# Altium schematic symbol library n21-p2.SchLib: 84 symbols (part 1 of 2)
Pins are listed as number, name and electrical type; pins without a type are passive.

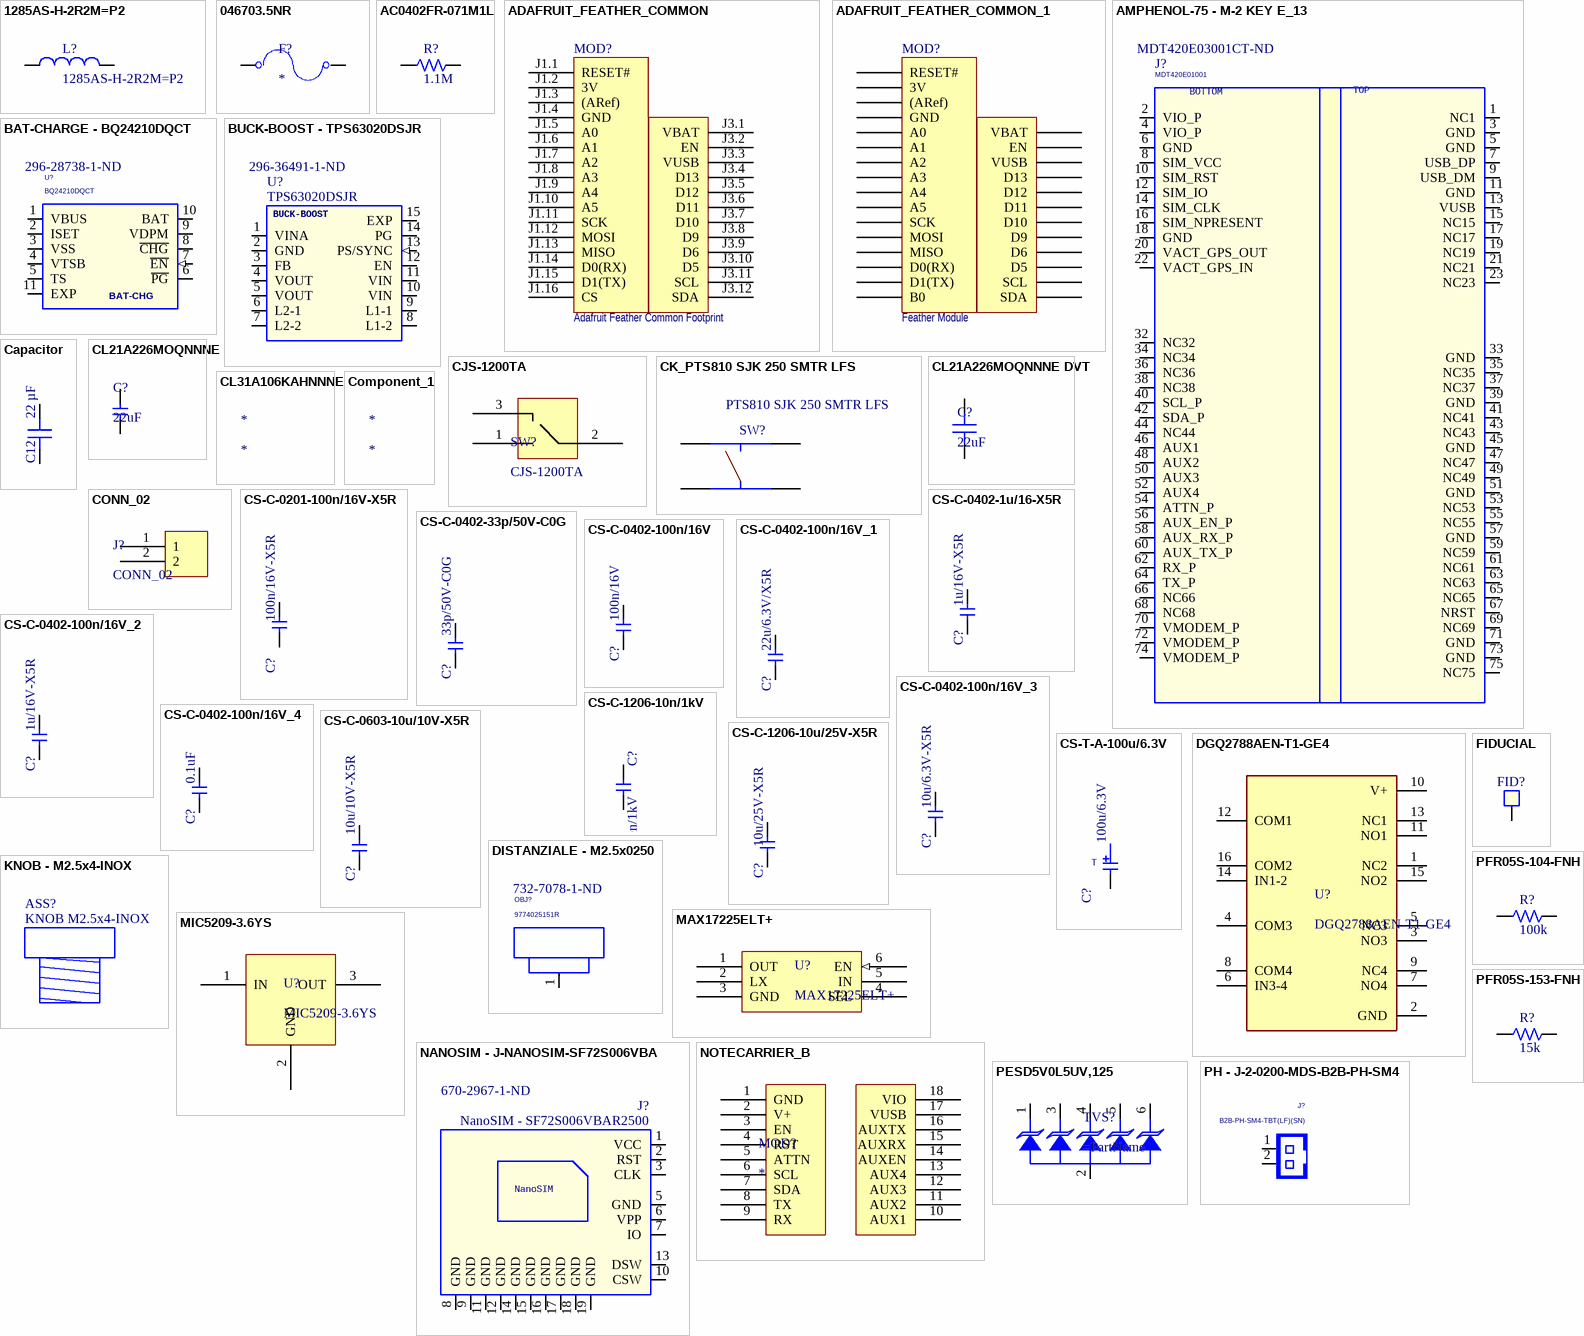
[diagram p0: symbols 1285AS-H-2R2M=P2 to PH - J-2-0200-MDS-B2B-PH-SM4]

## 1285AS-H-2R2M=P2
designator L?
Inductor Power Shielded Wirewound 2.2uH 20% 1MHz Metal 1.2A 0.204Ohm DCR 0806 T/R; Manufacturer: Murata; Core Material: Ferrite; DC Resistance (DCR): 204mR; Current Rating: 1.5A; Supplier 1: Digi-Key; Manufacturer Part Number: 1285AS-H-2R2M=P2; RoHS: Yes; Category: Fixed Inductors; Stock 1: 2212; Pricing 1: 1=0.40000, 10=0.35300, 25=0.30920, 50=0.26500, 100=0.24280, 250=0.22076, 500=0.20752, 1000=0.15895 (USD); Mount: Surface Mount; Case/Package: 0805; Case Code (Metric): 2012; Case Code (Imperial): 0805; Min Operating Temperature: -40°C; Max Operating Temperature: 85°C; Inductance: 2.2uH; Shielding: Shielded; Max DC Current: 1.2A; Tolerance: 20%; Packaging: Tape and Reel; Resistor Type: Wirewound,Metal Alloy; Test Frequency: 1MHz; Length: 0.079inch; Width: 0.063inch; Depth: 1.6mm; Height - Seated (Max): 0.039inch; RoHS Compliant: Yes; ComponentLink1URL: http://www.toko.co.jp/products/pdf/inductors/dfe201610c.pdf?src-supplier=Avnet; ComponentLink1Description: http://www.toko.co.jp/products/pdf/inductors/dfe201610c.pdf?src-supplier=Avnet; ComponentLink2URL: https://www.murata.com/~/media/webrenewal/products/inductor/chip/tokoproducts/wirewoundmetalalloychiptype/m_dfe201610c.ashx?src-supplier=Digi-Key; ComponentLink2Description: https://www.murata.com/~/media/webrenewal/products/inductor/chip/tokoproducts/wirewoundmetalalloychiptype/m_dfe201610c.ashx?src-supplier=Digi-Key; Supplier Part Number 1: 490-10600-1-ND
footprint 1285AS-H-2R2M=P2-INDC2016X100N
pins: 1, 2

## 046703.5NR
designator F?
Fuse Chip Very Fast Acting 3.5A 32V SMD Solder Pad 0603 T/R CSA; Manufacturer 1: Littelfuse; Manufacturer Part Number 1: 046703.5NR; Body Material: Thermoplastic; DC Cold Resistance: 13.9mR; Fuse Type: Board Mount (Cartridge Style Excluded); Resistance: 15mR; Power Dissipation: 259.9mW; Approvals: UL,CSA; Supplier 1: Digi-Key; RoHS: Yes; Category: Fuses; Stock 1: 384; Pricing 1: 1=1.35000, 5=1.31000, 10=1.22600, 50=1.01440, 100=0.84540, 250=0.82428, 500=0.69746, 1000=0.61292 (USD); Mount: Surface Mount; Case/Package: 0603; Case Code (Metric): 1608; Case Code (Imperial): 0603; Min Operating Temperature: -55°C; Max Operating Temperature: 90°C; Voltage Rating (AC): 32V; Voltage Rating (DC): 32V; Current Rating: 3.5A; Packaging: Tape and Reel; Package Quantity: 5000; Series: 467; Voltage Rating: 32V; Termination: SMD/SMT; Fuse Current: 3.5A; Working Voltage: 32V; Length: 1.6mm; Width: 1.09mm; Height: 0.012inch; Depth: 0.81mm; RoHS Compliant: Yes; REACH SVHC: Unknown; Lead Free: Lead Free; ComponentLink1URL: https://datasheet.ciiva.com/299/467-299333.pdf?src-supplier=Digi-Key; ComponentLink1Description: https://datasheet.ciiva.com/299/467-299333.pdf?src-supplier=Digi-Key; ComponentLink2URL: https://datasheet.ciiva.com/299/467-299334.pdf?src-supplier=Digi-Key; ComponentLink2Description: https://datasheet.ciiva.com/299/467-299334.pdf?src-supplier=Digi-Key; ComponentLink3URL: https://datasheet.ciiva.com/299/467-299335.pdf?src-supplier=Digi-Key; ComponentLink3Description: https://datasheet.ciiva.com/299/467-299335.pdf?src-supplier=Digi-Key; ComponentLink4URL: https://datasheet.ciiva.com/1549/48494-1549730.pdf?src-supplier=Element14; ComponentLink4Description: https://datasheet.ciiva.com/1549/48494-1549730.pdf?src-supplier=Element14; ComponentLink5URL: https://datasheet.ciiva.com/16327/467-16327451.pdf?src-supplier=Future+Electronics; ComponentLink5Description: https://datasheet.ciiva.com/16327/467-16327451.pdf?src-supplier=Future+Electronics; Supplier Part Number 1: F1400CT-ND
footprint FS-0603
pins: 1, 2

## AC0402FR-071M1L
designator R?, comment 1.1M
Res Thick Film 0402 1.1M Ohm 1% 0.063W(1/16W) ±100ppm/C Pad SMD Automotive T/R; Manufacturer: Yageo; Manufacturer Part Number: AC0402FR-071M1L; Power Rating: 62.5mW; Resistance: 1.1MR; Voltage Rating: 50V; Temperature Coefficient: 100ppm/°C; Max Power Dissipation: 63mW; Supplier 1: Digi-Key; RoHS: Yes; Category: Chip SMD Resistors; Stock 1: 15284; Pricing 1: 1=0.10000, 10=0.02200, 100=0.00900, 1000=0.00402, 2500=0.00349, 5000=0.00288 (USD); Case/Package: 0402; Case Code (Imperial): 0402; Case Code (Metric): 1005; Min Operating Temperature: -55°C; Max Operating Temperature: 155°C; Packaging: Tape and Reel; Tolerance: 1%; Resistor Type: Thick Film; Termination: SMD/SMT; Number of Terminations: 2; Features: Moisture Resistant,Automotive AEC-Q200; Series: AC; Length: 0.039inch; Width: 0.5mm; Height: 0.015inch; RoHS Compliant: Yes; ComponentLink1URL: http://www.mouser.com/ds/2/447/yageodocoutput-1111992.pdf?src-supplier=Mouser; ComponentLink1Description: http://www.mouser.com/ds/2/447/yageodocoutput-1111992.pdf?src-supplier=Mouser; ComponentLink2URL: http://www.yageo.com/NewPortal/yageodocoutput?fileName=/pdf/R-Chip/PYu-AC_51_RoHS_L_6.pdf&src-supplier=Digi-Key; ComponentLink2Description: http://www.yageo.com/NewPortal/yageodocoutput?fileName=/pdf/R-Chip/PYu-AC_51_RoHS_L_6.pdf&src-supplier=Digi-Key; Supplier Part Number 1: YAG5647CT-ND
footprint RES 0402_1005 (Chip Resistor, 2-Leads, Body 1.0x0.5mm, IPC Medium Density)
pins: 1, 2

## ADAFRUIT_FEATHER_COMMON
designator MOD?, comment Adafruit Feather Common Footprint
Typical Adafruit Feather Pinout
pins: J1.1 RESET#, J1.2 3V, J1.3 (ARef), J1.4 GND, J1.5 A0, J1.6 A1, J1.7 A2, J1.8 A3, J1.9 A4, J1.10 A5, J1.11 SCK, J1.12 MOSI, J1.13 MISO, J1.14 D0(RX), J1.15 D1(TX), J1.16 CS, J3.1 VBAT, J3.2 EN, J3.3 VUSB, J3.4 D13, J3.5 D12, J3.6 D11, J3.7 D10, J3.8 D9, J3.9 D6, J3.10 D5, J3.11 SCL, J3.12 SDA

## ADAFRUIT_FEATHER_COMMON_1
designator MOD?, comment Feather Module
Typical Adafruit Feather Pinout
footprint BLUES_WIRELESS_SWAN_2-54_HEADERS
pins: 1 RESET#, 2 3V, 3 (ARef), 4 GND, 5 A0, 6 A1, 7 A2, 8 A3, 9 A4, 10 A5, 11 SCK, 12 MOSI, 13 MISO, 14 D0(RX), 15 D1(TX), 16 B0, 17 SDA, 18 SCL, 19 D5, 20 D6, 21 D9, 22 D10, 23 D11, 24 D12, 25 D13, 26 VUSB, 27 EN, 28 VBAT

## AMPHENOL-75 - M-2 KEY E_13
designator J?, comment MDT420E01001  Supplier Part Number 1: MDT420E03001CT-ND
CONN. M.2 75P M/90° P=0.5 MDT420E01001 AMPHENOL SMT; Famiglia: CONNETTORE; Pkg Type: SMD; Temp Range: -40°..+80°; ROOM: M2 CONNECTOR; PCB Footprint: J-75-0050-MOS-M2-E; Caratteristiche: 75P; Distributor: D-MDT420E01001CT-ND; Price Distributor Cad: 1,21; Supplier 1: Digi-Key
footprint J-75-0050-MOS-M2
pins: 1 NC1, 2 VIO_P (power), 3 GND (power), 4 VIO_P (power), 5 GND (power), 6 GND (power), 7 USB_DP, 8 SIM_VCC, 9 USB_DM, 10 SIM_RST, 11 GND (power), 12 SIM_IO, 13 VUSB (power), 14 SIM_CLK, 15 NC15, 16 SIM_NPRESENT, 17 NC17, 18 GND (power), 19 NC19, 20 VACT_GPS_OUT (power), 21 NC21, 22 VACT_GPS_IN, 23 NC23, 32 NC32, 33 GND (power), 34 NC34, 35 NC35, 36 NC36, 37 NC37, 38 NC38, 39 GND (power), 40 SCL_P, 41 NC41, 42 SDA_P, 43 NC43, 44 NC44, 45 GND (power), 46 AUX1, 47 NC47, 48 AUX2, 49 NC49, 50 AUX3, 51 GND (power), 52 AUX4, 53 NC53, 54 ATTN_P, 55 NC55, 56 AUX_EN_P, 57 GND (power), 58 AUX_RX_P, 59 NC59, 60 AUX_TX_P, 61 NC61, 62 RX_P, 63 NC63, 64 TX_P, 65 NC65, 66 NC66, 67 NRST, 68 NC68, 69 NC69, 70 VMODEM_P (power), 71 GND (power), 72 VMODEM_P (power), 73 GND (power), 74 VMODEM_P (power), 75 NC75
text: BOTTOM; TOP

## BAT-CHARGE - BQ24210DQCT
designator U?, comment BQ24210DQCT  Supplier Part Number 1: 296-28738-1-ND
INTEGRATO BQ24210DQCT WSON10 TEXAS SMT; Caratteristiche: LITIO; Database: 47785; Modello: CARICABATTERIA; Note: Vin=20V - Ichg=800mA; Pkg Type: SMD; Temp Range: -40°..+85°; ROOM: SOLAR BATTERY CHARGER; PCB Footprint: WSON10-EXP; Distributor: FAE; Famiglia: INTEGRATO; MPN: BQ24210DQCT; Price Distributor Cad: 1,2778; Supplier 1: Digi-Key
footprint WSON10-EXP
pins: 1 VBUS (power), 2 ISET, 3 VSS (power), 4 VTSB, 5 TS, 6 ~{PG} (oc), 7 ~{EN} (in), 8 ~{CHG} (oc), 9 VDPM, 10 BAT (power), 11 EXP
text: BAT-CHG

## BUCK-BOOST - TPS63020DSJR
designator U?, comment TPS63020DSJR  Supplier Part Number 1: 296-36491-1-ND
I.C. DC/DC CONVERTER TPS63020DSJR TEXAS VSON14 SMT; Caratteristiche: ADJmA/ADJ; Database: 42016; Famiglia: INTEGRATO; Modello: BUCK; Note: VDD=1V8 - 5V5 - Fsw=2.4MHz - Isw=3.5A; Pkg Type: SMD; Temp Range: -40°..+85°; ROOM: BUCK-BOOST; PCB Footprint: IC-TPS6302x; Distributor: FAE; MPN: TPS63020DSJR; Price Distributor Cad: 1,2277; Supplier 1: Digi-Key
footprint TI PVSON-14 DSJ (VSON, 14-Leads, Body 3.00x4.00mm, Pitch 0.50mm, Thermal Pad 1.58x2.85mm, IPC Medium Density)
pins: 1 VINA (power), 2 GND (power), 3 FB, 4 VOUT (power), 5 VOUT (power), 6 L2-1, 7 L2-2, 8 L1-2, 9 L1-1, 10 VIN (power), 11 VIN (power), 12 EN, 13 PS/SYNC (in), 14 PG (oc), 15 EXP

## Capacitor
designator C12, comment 22 µF
CAP CER 22UF 16V X5R 0805; Part Number: CL21A226MOQNNNE; manufacturer: Samsung Electro-Mechanics; Tolerance: ±20%; Applications: General Purpose; Capacitance: 22 µF; componentlink1description: Datasheet; componentlink1url: http://www.samsungsem.com/kr/support/product-search/mlcc/CL21A226MOQNNNE.jsp; componentlink2description: DigiKey Link; componentlink2url: https://www.digikey.com/en/products/detail/samsung-electro-mechanics/CL21A226MOQNNNE/3888567; Device Package: 0805 (2012 Metric); lastupdated: 1/3/2023 8:10:54 PM; Lifecycle Status: Active; Minimum Order: 1; Mounting Type: Surface Mount, MLCC; Operating Temperature: -55°C ~ 85°C; Package / Case: 0805 (2012 Metric); packaging: TapeAndReel; partid: 3052; Part Status: Active; price: 0.05; series: CL; Size / Dimension: 0.079" L x 0.049" W (2.00mm x 1.25mm); Supplier 1: DigiKey; Supplier Part Number 1: 1276-2909-1-ND; Temperature Coefficient: X5R; Thickness (Max): 0.055" (1.40mm); Voltage - Rated: 16V; Value: 22 µF
footprint CAP 0805_2012
pins: 1, 2

## CJS-1200TA
designator SW?
Switch Slide N.O./N.C. SPDT Raised Slide 0.1A 24VDC J-Hook SMD Embossed T/R; Manufacturer: Nidec Copal; Body Material: Polyphenylene; Voltage Rating (DC): 6V; Electrical Life: 200Cycles; Max Voltage Rating (DC): 24V; Current Rating: 100mA; Number of Positions: 2; Actuator Type: Slide (Standard); Washable: Yes; Supplier 1: Digi-Key; Manufacturer Part Number: CJS-1200TA; RoHS: Yes; Category: Slide Switches; Pricing 1: 1=0.81000, 10=0.78400, 25=0.75440, 100=0.65470, 250=0.59736, 500=0.55510 (USD); Mount: Surface Mount; Contact Material: Copper Alloy; Contact Plating: Gold; Min Operating Temperature: -40°C; Max Operating Temperature: 85°C; Packaging: Tape and Reel; Throw Configuration: SPDT; Termination: J-Hook; Series: CJS; Orientation: Vertical; Length: 0.212inch; Radiation Hardening: No; RoHS Compliant: Yes; Lead Free: Lead Free; ComponentLink1URL: https://datasheet.ciiva.com/2864/cjs-2864476.pdf?src-supplier=Digi-Key; ComponentLink1Description: https://datasheet.ciiva.com/2864/cjs-2864476.pdf?src-supplier=Digi-Key; ComponentLink2URL: https://datasheet.ciiva.com/2864/cjs-2864477.pdf?src-supplier=Digi-Key; ComponentLink2Description: https://datasheet.ciiva.com/2864/cjs-2864477.pdf?src-supplier=Digi-Key; ComponentLink3URL: https://datasheet.ciiva.com/2864/cjs-2864478.pdf?src-supplier=Digi-Key; ComponentLink3Description: https://datasheet.ciiva.com/2864/cjs-2864478.pdf?src-supplier=Digi-Key; Supplier Part Number 1: 563-1021-6-ND
footprint SW_CJS-1200TA
pins: 1, 2, 3

## CK_PTS810 SJK 250 SMTR LFS
designator SW?, comment PTS810 SJK 250 SMTR LFS
SWITCH TACTILE SPST-NO 0.05A 12V 4.2 mm x 3.2 mm; Manufacturer: C&K; Supplier 1: Digi-Key; Manufacturer Part Number: PTS810 SJK 250 SMTR LFS; ComponentLink1URL: https://www.ckswitches.com/media/1476/pts810.pdf; ComponentLink1Description: https://www.ckswitches.com/media/1476/pts810.pdf; Supplier Part Number 1: CKN10503CT-ND
footprint CK-PTS810-SJx (PTS 810 Series, Microminiature SMT Top Actuated)
pins: 1, 2, 3, 4
1 alternate drawing of the same symbol

## CL21A226MOQNNNE
designator C?, comment 22uF
贴片电容（MLCC） 22µF ±20% 16V X5R 0805; Manufacturer: Samsung; Manufacturer Part Number: CL21A226MOQNNNE; Supplier 1: Avnet; RoHS: Yes; Category: Ceramic Capacitors; Stock 1: 752000; Pricing 1: 2000=0.03780, 4000=0.03726, 8000=0.03618, 12000=0.03537, 16000=0.03402 (USD); Mount: Surface Mount; Case/Package: 0805; Case Code (Metric): 2012; Case Code (Imperial): 0805; Contact Plating: Tin; Min Operating Temperature: -55°C; Max Operating Temperature: 85°C; Package Quantity: 1; Packaging: Cut Tape; Tolerance: 20%; Voltage Rating: 16V; Dielectric: X5R; Voltage Rating (DC): 16V; Termination: Wraparound; Series: CL; Construction: Flat; Length: 0.079inch; Width: 0.049inch; Thickness: 0.055inch; RoHS Compliant: Yes; Lead Free: Lead Free; ComponentLink1URL: https://datasheet.ciiva.com/25724/cl21a226moqnnne-25724832.pdf?src-supplier=Digi-Key; ComponentLink1Description: https://datasheet.ciiva.com/25724/cl21a226moqnnne-25724832.pdf?src-supplier=Digi-Key; Supplier Part Number 1: CL21A226MOQNNNE; Capacitance: 22uF
footprint CAP FILM 0805 (J2, Film Capacitor PPS , 2-Leads, Body 2.00x1.25mm, IPC Medium Density)
pins: 1, 2

## CL21A226MOQNNNE DVT
designator C?, comment 22uF
Cap Ceramic 22uF 16V X5R 20% Pad SMD 0805 85°C T/R; Manufacturer 1: Samsung; Manufacturer Part Number 1: CL21A226MOQNNNE; Supplier 1: Avnet; RoHS: Yes; Category: Ceramic Capacitors; Stock 1: 660000; Pricing 1: 2000=0.04698, 4000=0.04590, 8000=0.04482, 12000=0.04374, 16000=0.04266 (USD); Mount: Surface Mount; Case/Package: 0805; Case Code (Metric): 2012; Case Code (Imperial): 0805; Contact Plating: Tin; Min Operating Temperature: -55°C; Max Operating Temperature: 85°C; Package Quantity: 1; Packaging: Cut Tape; Capacitance: 22uF; Tolerance: 20%; Voltage Rating: 16V; Dielectric: X5R; Voltage Rating (DC): 16V; Termination: Wraparound; Series: CL; Construction: Flat; Length: 0.079inch; Width: 0.049inch; Thickness: 0.055inch; RoHS Compliant: Yes; Lead Free: Lead Free; ComponentLink1URL: https://datasheet.ciiva.com/25724/cl21a226moqnnne-25724832.pdf?src-supplier=Digi-Key; ComponentLink1Description: https://datasheet.ciiva.com/25724/cl21a226moqnnne-25724832.pdf?src-supplier=Digi-Key; Supplier Part Number 1: CL21A226MOQNNNE
footprint CAP 0805_2012 (Chip Capacitor, 2-Leads, Body 2.00x1.20mm, IPC Medium Density)
pins: 1, 2

## CL31A106KAHNNNE
designator *
Ceramic capacitor SMD-1206 10uF /25V Y5V# M +-20% FENGHUA, RoHS/2k/; Manufacturer: Samsung; Manufacturer Part Number: CL31A106KAHNNNE; Tolerance: 10%; Dielectric: X5R; Voltage: 25V; Supplier 1: Digi-Key; RoHS: Yes; Category: Ceramic Capacitors; Stock 1: 2440789; Pricing 1: 2000=0.04095, 4000=0.03723 (USD); Mount: Surface Mount; Case/Package: 1206; Case Code (Metric): 3216; Case Code (Imperial): 1206; Material: Ceramic; Contact Plating: Tin; Min Operating Temperature: -55°C; Max Operating Temperature: 85°C; Capacitance: 10uF; Voltage Rating (DC): 25V; Packaging: Tape and Reel; Voltage Rating: 25V; Series: CL; Construction: Flat; Length: 3.2mm; Width: 0.063inch; Height: 1.6mm; Depth: 1.6mm; Thickness: 0.071inch; Radiation Hardening: No; Lead Free: Lead Free; RoHS Compliant: Yes; ComponentLink1URL: https://datasheet.ciiva.com/25710/cl31a106kahnnne-25710837.pdf?src-supplier=Digi-Key; ComponentLink1Description: https://datasheet.ciiva.com/25710/cl31a106kahnnne-25710837.pdf?src-supplier=Digi-Key; ComponentLink2URL: https://datasheet.ciiva.com/15195/getdatasheetpartid-355210-15195990.pdf?src-supplier=Verical; ComponentLink2Description: https://datasheet.ciiva.com/15195/getdatasheetpartid-355210-15195990.pdf?src-supplier=Verical; ComponentLink3URL: https://datasheet.ciiva.com/29201/452519-da-01-en-vs-kondensator-1206-29201124.pdf?src-supplier=Conrad; ComponentLink3Description: https://datasheet.ciiva.com/29201/452519-da-01-en-vs-kondensator-1206-29201124.pdf?src-supplier=Conrad; Supplier Part Number 1: 1276-1075-2-ND

## Component_1
designator *

## CONN_02
designator J?  (no BOM)
0,1" 2 PIN Header
footprint CONN_02 (0.1" 2 PIN header)
pins: 1 "Pin 1", 2 "Pin 2"

## CS-C-0201-100n/16V-X5R
designator C?, comment 100n/16V-X5R
CHIP CAP.CER. 100nF 16V 10% X5R 0201 GRM033R61C104KE84J MURATA; Pkg Type: SMD; Modello: CERAMICO; Famiglia: CONDENSATORE; Database: 48804; PCB Footprint: CS-C-0201; Price Distributor Cad: 0,0031; MPN: GRM033R61C104KE84J; Distributor: FAE; Caratteristiche: X5R
footprint CS-C-0201
pins: 1, 2

## CS-C-0402-1u/16-X5R
designator C?, comment 1u/16V-X5R
CHIP CAP.CER. 1uF 16V 10% X5R 0402; ROOM: SOLAR BATTERY CHARGER; Pkg Type: SMD; Modello: CERAMICO; Famiglia: CONDENSATORE; Database: 37485; PCB Footprint: CS-C-0402; Price Distributor Cad: 0,0253; Distributor: FAE; Caratteristiche: X5R
footprint CS-C-0402
pins: 1, 2

## CS-C-0402-33p/50V-C0G
designator C?, comment 33p/50V-C0G
CHIP CAP.CER. 33pF 50V 5% C0G 0402; Database: 43360; Famiglia: CONDENSATORE; Modello: CERAMICO; Pkg Type: SMD; PCB Footprint: CS-C-0402; Caratteristiche: C0G; Distributor: FAE; Price Distributor Cad: 0,005
footprint CS-C-0402
pins: 1, 2

## CS-C-0402-100n/16V
designator C?, comment 100n/16V
CHIP CAP.CER. 100nF 16V 10% X7R 0402; ROOM: USB; Pkg Type: SMD; Modello: CERAMICO; Famiglia: CONDENSATORE; Database: 22452; PCB Footprint: CS-C-0402; Price Distributor Cad: 0,0021; Distributor: FAE; Caratteristiche: X7R
footprint CS-C-0402
pins: 1, 2

## CS-C-0402-100n/16V_1
designator C?, comment 22u/6.3V/X5R
CHIP CAP.CER. 100nF 16V 10% X7R 0402; ROOM: USB; Pkg Type: SMD; Modello: CERAMICO; Famiglia: CONDENSATORE; Database: 22452; PCB Footprint: CS-C-0402; Price Distributor Cad: 0,0021; Distributor: FAE; Caratteristiche: X7R
footprint CS-C-0402
pins: 1, 2

## CS-C-0402-100n/16V_2
designator C?, comment 1u/16V-X5R
CHIP CAP.CER. 100nF 16V 10% X7R 0402; ROOM: USB; Pkg Type: SMD; Modello: CERAMICO; Famiglia: CONDENSATORE; Database: 22452; PCB Footprint: CS-C-0402; Price Distributor Cad: 0,0021; Distributor: FAE; Caratteristiche: X7R
footprint CS-C-0402
pins: 1, 2

## CS-C-0402-100n/16V_3
designator C?, comment 10u/6.3V-X5R
CHIP CAP.CER. 100nF 16V 10% X7R 0402; ROOM: USB; Pkg Type: SMD; Modello: CERAMICO; Famiglia: CONDENSATORE; Database: 22452; PCB Footprint: CS-C-0402; Price Distributor Cad: 0,0021; Distributor: FAE; Caratteristiche: X7R
footprint CS-C-0402
pins: 1, 2

## CS-C-0402-100n/16V_4
designator C?, comment 0.1uF
CHIP CAP.CER. 100nF 16V 10% X7R 0402; MFR: Yageo; Database: 22452; Famiglia: CONDENSATORE; Modello: CERAMICO; Pkg Type: SMD; PCB Footprint: CS-C-0402; D: Multilayer Ceramic Capacitors MLCC - SMD/SMT 0.1 uF 16V 10% Ceramic Capacitor; PN: CC0402KPX5R7BB104; Caratteristiche: X7R; Distributor: FAE; Price Distributor Cad: 0,0021
footprint CS-C-0402
pins: 1, 2

## CS-C-0603-10u/10V-X5R
designator C?, comment 10u/10V-X5R
CHIP CAP.CER. 10uF 10V 10% X5R 0603; MPN: GRM188R61A106KE69D; ROOM: BUCK-BOOST; Pkg Type: SMD; Database: 28168; Modello: CERAMICO; Famiglia: CONDENSATORE; PCB Footprint: CS-C-0603; Price Distributor Cad: 0,0151; Distributor: FAE; Caratteristiche: X5R
footprint CS-C-0603
pins: 1, 2

## CS-C-1206-10n/1kV
designator C?, comment 10n/1kV
CHIP CAP.CER. 10nF 1000V 10% X7R 1206; ROOM: USB; Pkg Type: SMD; Modello: CERAMICO; Famiglia: CONDENSATORE; Database: 28470; PCB Footprint: CS-C-1206; Price Distributor Cad: 0,035; Distributor: FAE; Caratteristiche: X7R
footprint CS-C-1206
pins: 1, 2

## CS-C-1206-10u/25V-X5R
designator C?, comment 10u/25V-X5R
CHIP CAP.CER. 10uF 25V X5R 10% 1206; ROOM: SOLAR BATTERY CHARGER; Pkg Type: SMD; Modello: CERAMICO; Famiglia: CONDENSATORE; Database: 21513; PCB Footprint: CS-C-1206; Price Distributor Cad: 0,0195; Distributor: FAE; Caratteristiche: X5R
footprint CS-C-1206
pins: 1, 2

## CS-T-A-100u/6.3V
designator C?, comment 100u/6.3V
CHIP CAP.TANT. 100uF 6.3V 10% CASE A F930J107KAABE1 AVX; Database: 47199; Famiglia: CONDENSATORE; Modello: TANTALIO; Pkg Type: SMD; Temp Range: -55°..+125°; PCB Footprint: CS-T-A; Distributor: FAE; MPN: F930J107KAABE1; Price Distributor Cad: 0,59
footprint CS-T-A
pins: 1, 2
text: T

## DGQ2788AEN-T1-GE4
designator U?
Analog Switch Quad SPDT Automotive 16-Pin Mini-QFN T/R; Manufacturer: Vishay; Number of Circuits: 2; On-State Resistance: 500mR; -3db Bandwidth: 338MHz; Supplier 1: Arrow Electronics; Manufacturer Part Number: DGQ2788AEN-T1-GE4; RoHS: Yes; Category: Interface ICs; Stock 1: 341; Pricing 1: 1=1.03770, 10=0.89200, 25=0.88310, 100=0.69780, 250=0.68760 (USD); Number of Pins: 16; Min Operating Temperature: -40°C; Max Operating Temperature: 125°C; Packaging: Tape and Reel; RoHS Compliant: Yes; ComponentLink1URL: http://www.vishay.com/docs/75683/dgq2788a.pdf?src-supplier=Digi-Key; ComponentLink1Description: http://www.vishay.com/docs/75683/dgq2788a.pdf?src-supplier=Digi-Key; Supplier Part Number 1: DGQ2788AEN-T1-GE4
footprint QFN40P260X180X60-16N
pins: 1 NC2, 2 GND (power), 3 NO3, 4 COM3, 5 NC3, 6 IN3-4, 7 NO4, 8 COM4, 9 NC4, 10 V+ (power), 11 NO1, 12 COM1, 13 NC1, 14 IN1-2, 15 NO2, 16 COM2

## DISTANZIALE - M2.5x0250
designator OBJ?, comment 9774025151R  Supplier Part Number 1: 732-7078-1-ND
DISTANZ. CIL. METALLO 5.1X2.5 9774025151R W.E SMT; Pkg Type: SMD; Modello: DISTANZIALE; Famiglia: MECCANICA; Database: 44635; Caratteristiche: M2.5; PCB Footprint: DIST-WASMSIM0250; Price Distributor Cad: 0,6225; Distributor: FAE; Supplier 1: Digi-Key
footprint DIST-WASMSIM0250
pins: 1 (power)

## FIDUCIAL
designator FID?, comment TPS  (value not drawn)  (no BOM)
FIDUCIAL; Pkg Type: SMD; Distributor: FAE; PCB Footprint: FIDUCIAL
footprint FIDUCIAL
pins: 1 TP

## KNOB - M2.5x4-INOX
designator ASS?, comment KNOB M2.5x4-INOX
VITE TCEI 2.5X4 ESAGONO INCASSATO A2 INOX; Pkg Type: THT; Famiglia: MECCANICA; Caratteristiche: M2.5; Price Distributor Cad: 0,06; Modello: KNOB

## MAX17225ELT+
designator U?
nanoPower Boost Converter that Extends Battery Life and Reduces Solution Size; Manufacturer: Maxim; Supplier 1: Digi-Key; Manufacturer Part Number: MAX17225ELT+; RoHS: Yes; Category: Power Supply Modules; Mount: Surface Mount; Number of Pins: 6; Packaging: Bulk; ComponentLink1URL: https://datasheets.maximintegrated.com/en/ds/MAX17220-MAX17225.pdf?src-supplier=Digi-Key; ComponentLink1Description: https://datasheets.maximintegrated.com/en/ds/MAX17220-MAX17225.pdf?src-supplier=Digi-Key; Supplier Part Number 1: MAX17225ELT+ -ND
footprint MAX17225ELT+UDFN
pins: 1 OUT, 2 LX, 3 GND, 4 SEL, 5 IN, 6 EN (in)

## MIC5209-3.6YS
designator U?
Fixed Positive LDO Regulator, 3.6V, 0.6V Dropout, PDSO4; Manufacturer: Microchip; Output Current: 500mA; Dropout Voltage: 350mV; Number of Regulators: 1; Min Input Voltage: 2.5V; Max Input Voltage: 16V; Supplier 1: Digi-Key; Manufacturer Part Number: MIC5209-3.6YS; RoHS: Yes; Category: Voltage Regulators - Linear; Stock 1: 796; Pricing 1: 1=1.55000, 25=1.28240, 100=1.17660 (USD); Mount: Surface Mount; Case/Package: SOT-223; Number of Pins: 3; Min Operating Temperature: -40°C; Max Operating Temperature: 125°C; Output Voltage: 3.6V; Packaging: Rail/Tube; Output Type: Fixed; Nominal Output Voltage: 3.6V; Lead Free: Lead Free; REACH SVHC: No SVHC; ComponentLink1URL: http://www.mouser.com/ds/2/268/mic5209-778925.pdf?src-supplier=Mouser; ComponentLink1Description: http://www.mouser.com/ds/2/268/mic5209-778925.pdf?src-supplier=Mouser; ComponentLink2URL: http://uk.rs-online.com/webdocs/0add/0900766b80add541.pdf?src-supplier=RSComponents; ComponentLink2Description: http://uk.rs-online.com/webdocs/0add/0900766b80add541.pdf?src-supplier=RSComponents; ComponentLink3URL: http://components.arrow.com/part/dataview/0323_00166125?src-supplier=Arrow+Europe; ComponentLink3Description: http://components.arrow.com/part/dataview/0323_00166125?src-supplier=Arrow+Europe; ComponentLink4URL: http://www.microchip.com/mymicrochip/filehandler.aspx?ddocname=en579634&src-supplier=Digi-Key; ComponentLink4Description: http://www.microchip.com/mymicrochip/filehandler.aspx?ddocname=en579634&src-supplier=Digi-Key; ComponentLink5URL: http://components.arrow.com/part/dataview/41722910S105577N1374?src-supplier=Arrow+Electronics; ComponentLink5Description: http://components.arrow.com/part/dataview/41722910S105577N1374?src-supplier=Arrow+Electronics; ComponentLink6URL: http://www.farnell.com/datasheets/29478.pdf?src-supplier=Element14; ComponentLink6Description: http://www.farnell.com/datasheets/29478.pdf?src-supplier=Element14; ComponentLink7URL: http://www.micrel.com/_PDF/mic5209.pdf?src-supplier=Future+Electronics; ComponentLink7Description: http://www.micrel.com/_PDF/mic5209.pdf?src-supplier=Future+Electronics; Supplier Part Number 1: 576-2371-ND
pins: 1 IN, 2 GND, 3 OUT

## NANOSIM - J-NANOSIM-SF72S006VBA
designator J?, comment NanoSIM - SF72S006VBAR2500  Supplier Part Number 1: 670-2967-1-ND
CONN. NANOSIM 8P F/90° PUSH-PUSH SF72S006VBAR2500 JAE ELECTRONICS SMT; Pkg Type: SMD; Temp Range: -25°..+85°; Database: 41049; Famiglia: CONNETTORE; ROOM: NANO-SIM; PCB Footprint: J-NANOSIM-SF72S006VBA; Distributor: FAE; Price Distributor Cad: 0,7362; Modello: NanoSIM; Supplier 1: Digi-Key
footprint J-NANOSIM-SF72S006VBA
pins: 1 VCC (power), 2 RST, 3 CLK, 5 GND (power), 6 VPP, 7 IO (io), 8 GND (power), 9 GND (power), 10 CSW, 11 GND (power), 12 GND (power), 13 DSW, 14 GND (power), 15 GND (power), 16 GND (power), 17 GND (power), 18 GND (power), 19 GND (power)

## NOTECARRIER_B
designator MOD?
footprint NOTECARRIER-B
pins: 1 GND, 2 V+, 3 EN, 4 RST, 5 ATTN, 6 SCL, 7 SDA, 8 TX, 9 RX, 10 AUX1, 11 AUX2, 12 AUX3, 13 AUX4, 14 AUXEN, 15 AUXRX, 16 AUXTX, 17 VUSB, 18 VIO

## PESD5V0L5UV,125
designator TVS?
PESD Series 25 W 5 V Uni-Directional Fivefold ESD Protection Diode Array SOT-666; Manufacturer: Nexperia; Manufacturer Part Number: PESD5V0L5UV,125; Supplier 1: Digi-Key; RoHS: Yes; Category: ESD and Circuit Protection ICs; Stock 1: 4000; Pricing 1: 1=0.42000, 10=0.31700, 100=0.19770, 500=0.13528, 1000=0.10406, 2000=0.09366 (USD); RoHS Compliant: Yes; Supplier Part Number 1: 1727-5797-1-ND
footprint SOT666
pins: 1 C1, 2 A2, 3 C3, 4 C4, 5 A5, 6 C6

## PFR05S-104-FNH
designator R?, comment 100k
Res SMD 100 Kohm 1% 1/16W 0402; Manufacturer: Cyntec; Manufacturer Part Number: PFR05S-104-FNH; Supplier 1: Digi-Key; RoHS: Yes; Category: Chip SMD Resistors; Stock 1: 2416; Pricing 1: 1=0.10000, 10=0.01500, 100=0.00590, 1000=0.00265, 2500=0.00230, 5000=0.00190 (USD); RoHS Compliant: Yes; Supplier Part Number 1: 2037-PFR05S-104-FNHCT-ND
footprint RES 0402_1005 (Chip Resistor, 2-Leads, Body 1.0x0.5mm, IPC Medium Density)
pins: 1, 2

## PFR05S-153-FNH
designator R?, comment 15k
Res SMD 15 Kohm 1% 1/16W 0402; Manufacturer: Cyntec; Manufacturer Part Number: PFR05S-153-FNH; Supplier 1: Digi-Key; RoHS: Yes; Category: Chip SMD Resistors; Stock 1: 3928; Pricing 1: 1=0.10000, 10=0.01500, 100=0.00590, 1000=0.00265, 2500=0.00230, 5000=0.00190 (USD); RoHS Compliant: Yes; Supplier Part Number 1: 2037-PFR05S-153-FNHCT-ND
footprint RES 0402_1005 (Chip Resistor, 2-Leads, Body 1.0x0.5mm, IPC Medium Density)
pins: 1, 2

## PH - J-2-0200-MDS-B2B-PH-SM4
designator J?, comment B2B-PH-SM4-TBT(LF)(SN)
CONN. PH 2P M/D P=2 B2B-PH-SM4-TBT(LF)(SN) JST SMT; Temp Range: -25°..+85°; ROOM: SOLAR BATTERY CHARGER; Pkg Type: SMD; Note: 100V - 2A - AWG32 to AWG24; Famiglia: CONNETTORE; Database: 36983; PCB Footprint: J-2-0200-MDS-B2B-PH-SM4; MPN: B2B-PH-SM4-TBT(LF)(SN); Price Distributor Cad: 0,347; Modello: PH; Distributor: FAE; Caratteristiche: 2P
footprint J-2-0200-MDS-B2B-PH-SM4
pins: 1, 2

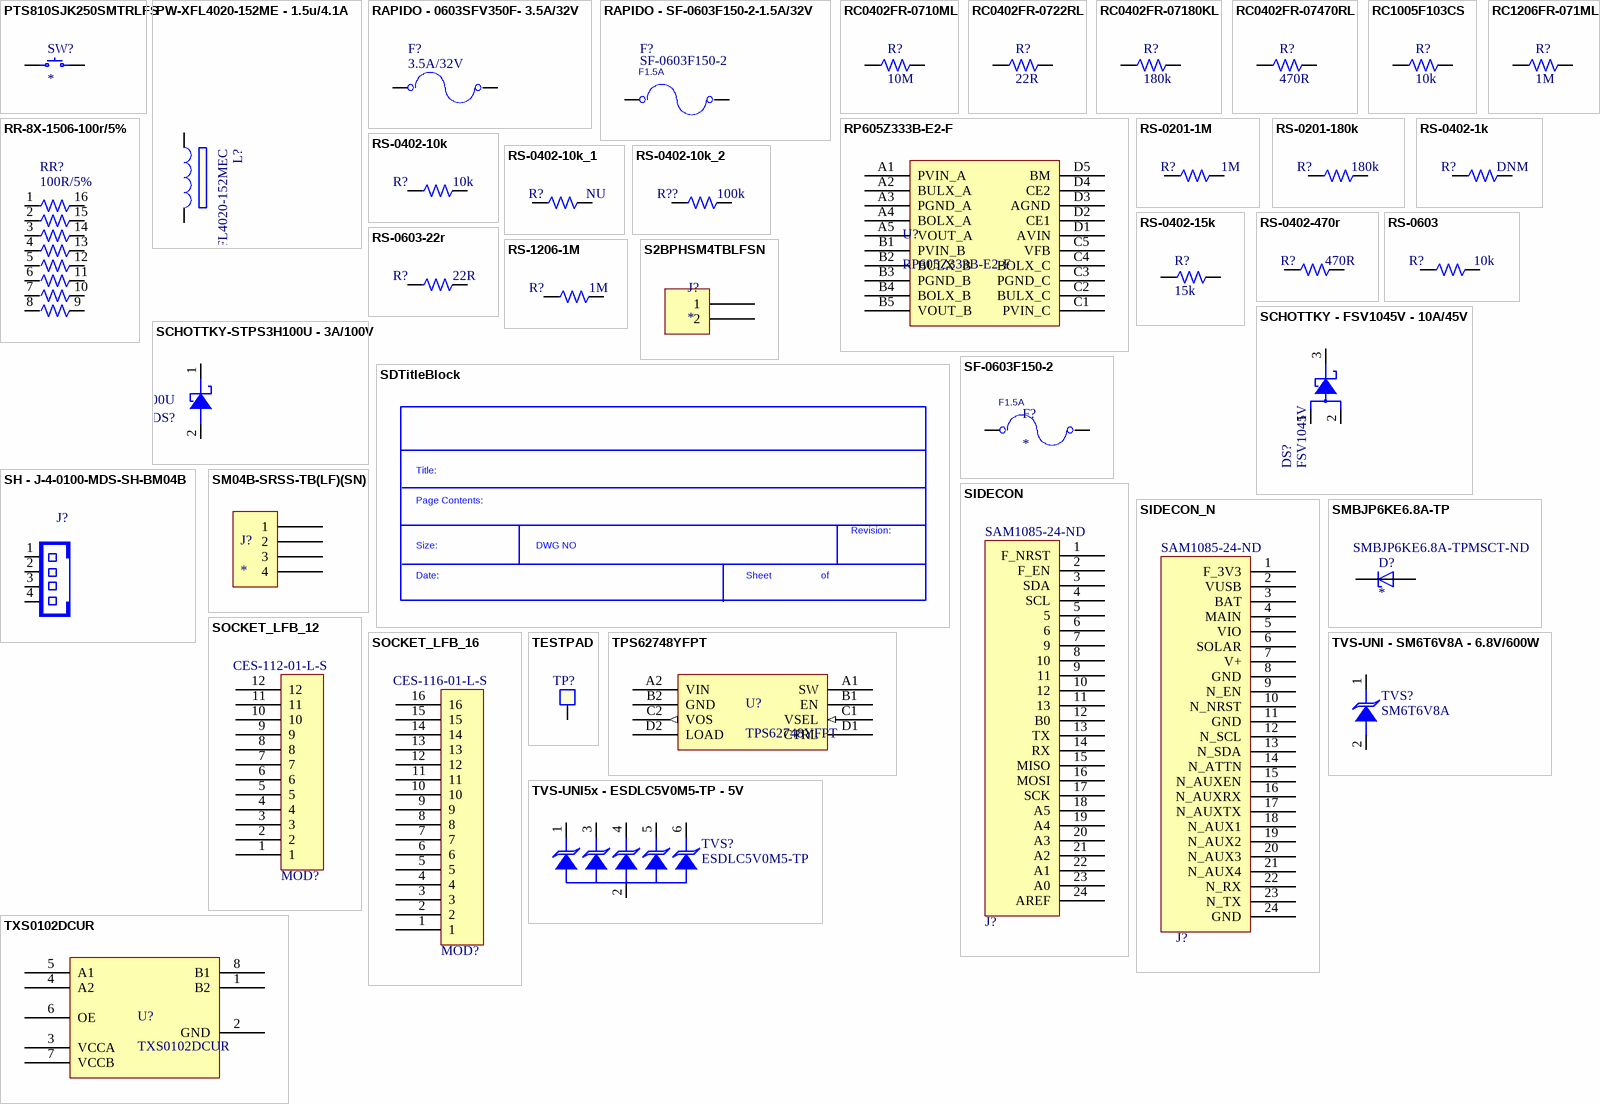
[diagram p1: symbols PTS810SJK250SMTRLFS to TXS0102DCUR]

## PTS810SJK250SMTRLFS
designator SW?
PTS810 Series SPST Off-MOM 0.05 A 16 V Top Actuated SMT Tactile Switch; Manufacturer: ITT C&K; Manufacturer Part Number: PTS810SJK250SMTRLFS; Mechanical Life: 50000Cycles; Operating Force: 260gf; Max Current Rating: 50mA; Voltage Rating (DC): 16V; Illumination Type: Non-Illuminated; Switch Travel: 0.15mm; Actuator Type: Standard; Supplier 1: Digi-Key; RoHS: Yes; Category: Tactile Switches; Stock 1: 57; Pricing 1: 1=0.34000, 10=0.32600, 25=0.30880, 100=0.27980, 250=0.25504, 500=0.23706, 1000=0.20223 (USD); Mount: Surface Mount; Case/Package: SMD/SMT; Color: White; Contact Plating: Silver; Min Operating Temperature: -40°C; Max Operating Temperature: 85°C; Throw Configuration: SPST; Packaging: Tape and Reel; Termination: J-Bend; Current Rating: 50mA; Package Quantity: 2900; Orientation: Straight; Switch Function: Off-Mom; Length: 3.2mm; Depth: 4.6mm; Lead Free: Lead Free; RoHS Compliant: Yes; ComponentLink1URL: https://datasheet.ciiva.com/18514/pts810-4mar13-18514061.pdf?src-supplier=Digi-Key; ComponentLink1Description: https://datasheet.ciiva.com/18514/pts810-4mar13-18514061.pdf?src-supplier=Digi-Key; ComponentLink2URL: https://datasheet.ciiva.com/18514/pts810-4mar13-18514062.pdf?src-supplier=Digi-Key; ComponentLink2Description: https://datasheet.ciiva.com/18514/pts810-4mar13-18514062.pdf?src-supplier=Digi-Key; ComponentLink3URL: https://datasheet.ciiva.com/18514/pts810-4mar13-18514063.pdf?src-supplier=Digi-Key; ComponentLink3Description: https://datasheet.ciiva.com/18514/pts810-4mar13-18514063.pdf?src-supplier=Digi-Key; Supplier Part Number 1: CKN10503CT-ND
footprint C&K PTS810 (T-Switch, 4-leads, body 4.2x3.2mm, C&K PTS810 SJM 250 SMTR LFS)
pins: 1, 2, 3, 4

## PW-XFL4020-152ME - 1.5u/4.1A
designator L?, comment XFL4020-152MEC
INDUCTOR 1.5 uH 4.1A 20% 4X4 XFL4020-152MEC COILCRAFT SMT; Pkg Type: SMD; Temp Range: -40°..+125°; Database: 40355; Famiglia: INDUTTORE; Modello: POWER; ROOM: BUCK-BOOST; PCB Footprint: LS-XFL4020; Distributor: FAE; Price Distributor Cad: 0,55; Caratteristiche: 4.1A; MPN: XFL4020-152MEC
footprint LS-XFL4020
pins: 1, 2

## RAPIDO - 0603SFV350F- 3.5A/32V
designator F?, comment 3.5A/32V
FUSIBILE RAPIDO 3.5A 32V 0603 0603SFV350F/32-2 LITTELFUSE SMT; Temp Range: -55°..+125°; Pkg Type: SMD; Database: 40054; PCB Footprint: FS-0603; MPN: 0603SFV350F/32-2; Price Distributor Cad: 0,4034; Modello: RAPIDO; Famiglia: FUSIBILE; Distributor: FAE; Caratteristiche: 3.5A/32V
footprint FS-0603
pins: 1, 2

## RAPIDO - SF-0603F150-2-1.5A/32V
designator F?, comment SF-0603F150-2
FUSIBILE RAPIDO 1.5A 32V 0603 SF-0603F150-2 BOURNS SMT; Caratteristiche: 1.5A/32V; Database: 32505; Pkg Type: SMD; Temp Range: -40°..+105°; PCB Footprint: FS-0603; Distributor: FAE; Famiglia: FUSIBILE; Modello: RAPIDO; Price Distributor Cad: 0,1669; Manufacturer Part Number 1: SF-0603F150-2; Manufacturer 1: BOURNS
footprint FS-0603
pins: 1, 2
text: F1.5A

## RC0402FR-0710ML
designator R?, comment 10M
Res General Purpose Thick Film 0402 10M Ohm 1% 1/16W ±100ppm/°C Molded Paper T/R; Manufacturer: Yageo; Manufacturer Part Number: RC0402FR-0710ML; Resistance: 10MR; Power Rating: 63mW; Voltage Rating: 50V; Supplier 1: Digi-Key; RoHS: Yes; Category: Chip SMD Resistors; Stock 1: 1431384; Pricing 1: 10000=0.00186 (USD); Case/Package: 0402; Case Code (Imperial): 0402; Case Code (Metric): 1005; Min Operating Temperature: -55°C; Max Operating Temperature: 155°C; Tolerance: 1%; Packaging: Tape and Reel; Termination: SMD/SMT; Resistor Type: Thick Film; Temperature Coefficient: 100ppm/°C; Voltage Rating (DC): 50V; Working Voltage: 50V; Number of Terminations: 2; Features: Moisture Resistant; Series: RC; Max Power Dissipation: 63mW; Resistance Tolerance: 1%; Technology: THICK FILM; Construction: Rectangular; Length: 1mm; Height: 0.32mm; Depth: 0.5mm; RoHS Compliant: Yes; REACH SVHC: Unknown; Military Standard: Not; Lead Free: Lead Free; ComponentLink1URL: https://datasheet.ciiva.com/11808/0900766b80c66297-11808429.pdf?src-supplier=RSComponents; ComponentLink1Description: https://datasheet.ciiva.com/11808/0900766b80c66297-11808429.pdf?src-supplier=RSComponents; ComponentLink2URL: https://datasheet.ciiva.com/12667/pyu-rc0402-51-rohs-l-6-r-12667945.pdf?src-supplier=Mouser; ComponentLink2Description: https://datasheet.ciiva.com/12667/pyu-rc0402-51-rohs-l-6-r-12667945.pdf?src-supplier=Mouser; ComponentLink3URL: https://datasheet.ciiva.com/7849/1018594-7849816.pdf?src-supplier=Element14; ComponentLink3Description: https://datasheet.ciiva.com/7849/1018594-7849816.pdf?src-supplier=Element14; ComponentLink4URL: https://datasheet.ciiva.com/7849/1018594-7849817.pdf?src-supplier=Element14; ComponentLink4Description: https://datasheet.ciiva.com/7849/1018594-7849817.pdf?src-supplier=Element14; ComponentLink5URL: https://datasheet.ciiva.com/7983/1018594-7983487.pdf?src-supplier=Element14; ComponentLink5Description: https://datasheet.ciiva.com/7983/1018594-7983487.pdf?src-supplier=Element14; ComponentLink6URL: https://datasheet.ciiva.com/16741/pyu-rc0402-51-rohs-l-6-r-16741127.pdf?src-supplier=Future+Electronics; ComponentLink6Description: https://datasheet.ciiva.com/16741/pyu-rc0402-51-rohs-l-6-r-16741127.pdf?src-supplier=Future+Electronics; ComponentLink7URL: https://datasheet.ciiva.com/15189/getdatasheetpartid-466621-15189338.pdf?src-supplier=Verical; ComponentLink7Description: https://datasheet.ciiva.com/15189/getdatasheetpartid-466621-15189338.pdf?src-supplier=Verical; Supplier Part Number 1: 311-10.0MLRTR-ND
footprint RES 0402_1005 (Chip Resistor, 2-Leads, Body 1.0x0.5mm, IPC Medium Density)
pins: 1, 2

## RC0402FR-0722RL
designator R?, comment 22R
Res Thick Film 0402 22 Ohm 1% 0.063W(1/16W) ±100ppm/C Pad SMD T/R; Manufacturer: Yageo; Manufacturer Part Number: RC0402FR-0722RL; Voltage Rating: 50V; Power Rating: 63mW; Temperature Coefficient: 100ppm/°C; Supplier 1: Digi-Key; RoHS: Yes; Category: Chip SMD Resistors; Stock 1: 1796; Pricing 1: 1=0.10000, 10=0.01600, 100=0.00660, 1000=0.00299, 2500=0.00259, 5000=0.00214 (USD); Case/Package: 0402; Number of Pins: 2; Case Code (Imperial): 0402; Case Code (Metric): 1005; Size Code: 0402; Min Operating Temperature: -55°C; Max Operating Temperature: 155°C; Resistor Type: Thick Film; Voltage Rating (DC): 50V; Resistance: 22R; Tolerance: 1%; Packaging: Tape and Reel; Termination: SMD/SMT; Features: Moisture Resistant; Series: RC; Max Power Dissipation: 63mW; Number of Terminations: 2; Resistance Tolerance: 1%; Technology: THICK FILM; Construction: Rectangular; Length: 1mm; Width: 0.5mm; Height: 0.32mm; Depth: 0.5mm; RoHS Compliant: Yes; REACH SVHC: Unknown; Military Standard: Not; Lead Free: Lead Free; ComponentLink1URL: https://datasheet.ciiva.com/11819/0900766b80c66297-11819462.pdf?src-supplier=RSComponents; ComponentLink1Description: https://datasheet.ciiva.com/11819/0900766b80c66297-11819462.pdf?src-supplier=RSComponents; ComponentLink2URL: https://datasheet.ciiva.com/16930/pyu-rc0402-51-rohs-l-6-r-16930687.pdf?src-supplier=Future+Electronics; ComponentLink2Description: https://datasheet.ciiva.com/16930/pyu-rc0402-51-rohs-l-6-r-16930687.pdf?src-supplier=Future+Electronics; ComponentLink3URL: https://datasheet.ciiva.com/7849/1018594-7849911.pdf?src-supplier=Element14; ComponentLink3Description: https://datasheet.ciiva.com/7849/1018594-7849911.pdf?src-supplier=Element14; ComponentLink4URL: https://datasheet.ciiva.com/7849/1018594-7849912.pdf?src-supplier=Element14; ComponentLink4Description: https://datasheet.ciiva.com/7849/1018594-7849912.pdf?src-supplier=Element14; ComponentLink5URL: https://datasheet.ciiva.com/26829/getdatasheetpartid-554995-26829991.pdf?src-supplier=Verical; ComponentLink5Description: https://datasheet.ciiva.com/26829/getdatasheetpartid-554995-26829991.pdf?src-supplier=Verical; Supplier Part Number 1: 311-22.0LRCT-ND
footprint RES 0402_1005 (Chip Resistor, 2-Leads, Body 1.0x0.5mm, IPC Medium Density)
pins: 1, 2

## RC0402FR-07180KL
designator R?, comment 180k
Res Thick Film 0402 180K Ohm 1% 1/16W +/-100ppm/ßC Molded SMD Paper T/R; Manufacturer: Yageo; Manufacturer Part Number: RC0402FR-07180KL; Power Rating: 63mW; Temperature Coefficient: 100ppm/°C; Resistance: 180kR; Voltage Rating: 50V; Supplier 1: Digi-Key; RoHS: Yes; Category: Chip SMD Resistors; Stock 1: 959378; Pricing 1: 10000=0.00186 (USD); Case/Package: 0402; Case Code (Imperial): 0402; Case Code (Metric): 1005; Size Code: 0402; Min Operating Temperature: -55°C; Max Operating Temperature: 155°C; Tolerance: 1%; Packaging: Tape and Reel; Termination: SMD/SMT; Resistor Type: Thick Film; Features: Moisture Resistant; Series: RC; Max Power Dissipation: 63mW; Number of Terminations: 2; Construction: Rectangular; Resistance Tolerance: 1%; Length: 1mm; Depth: 0.5mm; RoHS Compliant: Yes; REACH SVHC: Unknown; Military Standard: Not; Lead Free: Lead Free; ComponentLink1URL: https://datasheet.ciiva.com/12656/pyu-rc0402-51-rohs-l-6-r-12656911.pdf?src-supplier=Mouser; ComponentLink1Description: https://datasheet.ciiva.com/12656/pyu-rc0402-51-rohs-l-6-r-12656911.pdf?src-supplier=Mouser; ComponentLink2URL: https://datasheet.ciiva.com/17025/pyu-rc0402-51-rohs-l-6-r-17025693.pdf?src-supplier=Future+Electronics; ComponentLink2Description: https://datasheet.ciiva.com/17025/pyu-rc0402-51-rohs-l-6-r-17025693.pdf?src-supplier=Future+Electronics; ComponentLink3URL: https://datasheet.ciiva.com/7849/1018594-7849851.pdf?src-supplier=Element14; ComponentLink3Description: https://datasheet.ciiva.com/7849/1018594-7849851.pdf?src-supplier=Element14; ComponentLink4URL: https://datasheet.ciiva.com/7849/1018594-7849852.pdf?src-supplier=Element14; ComponentLink4Description: https://datasheet.ciiva.com/7849/1018594-7849852.pdf?src-supplier=Element14; ComponentLink5URL: https://datasheet.ciiva.com/7983/1018594-7983497.pdf?src-supplier=Element14; ComponentLink5Description: https://datasheet.ciiva.com/7983/1018594-7983497.pdf?src-supplier=Element14; Supplier Part Number 1: 311-180KLRTR-ND
footprint RES 0402_1005 (Chip Resistor, 2-Leads, Body 1.0x0.5mm, IPC Medium Density)
pins: 1, 2

## RC0402FR-07470RL
designator R?, comment 470R
Res Thick Film 0402 470 Ohm 1% 0.063W(1/16W) ±100ppm/C Pad SMD T/R; Manufacturer: Yageo; Manufacturer Part Number: RC0402FR-07470RL; Voltage Rating: 50V; Power Rating: 62.5mW; Max Power Dissipation: 63mW; Temperature Coefficient: 100ppm/°C; Supplier 1: Digi-Key; RoHS: Yes; Category: Chip SMD Resistors; Stock 1: 4221525; Pricing 1: 10000=0.00186 (USD); Case/Package: 0402; Case Code (Metric): 1005; Case Code (Imperial): 0402; Size Code: 0402; Min Operating Temperature: -55°C; Max Operating Temperature: 155°C; Packaging: Tape and Reel; Resistance: 470R; Tolerance: 1%; Package Quantity: 1; Resistor Type: Thick Film; Number of Terminations: 2; Termination: SMD/SMT; Features: Moisture Resistant; Series: RC; Resistance Tolerance: 1%; Construction: Rectangular; Length: 1mm; Width: 0.02inch; Height: 0.016inch; Depth: 0.5mm; RoHS Compliant: Yes; REACH SVHC: Unknown; Military Standard: Not; Lead Free: Lead Free; ComponentLink1URL: https://datasheet.ciiva.com/2453/pyu-r-int-thick-7-2453376.pdf?src-supplier=Digi-Key; ComponentLink1Description: https://datasheet.ciiva.com/2453/pyu-r-int-thick-7-2453376.pdf?src-supplier=Digi-Key; ComponentLink2URL: https://datasheet.ciiva.com/2453/pyu-r-int-thick-7-2453377.pdf?src-supplier=Digi-Key; ComponentLink2Description: https://datasheet.ciiva.com/2453/pyu-r-int-thick-7-2453377.pdf?src-supplier=Digi-Key; ComponentLink3URL: https://datasheet.ciiva.com/2453/pyu-r-int-thick-7-2453378.pdf?src-supplier=Digi-Key; ComponentLink3Description: https://datasheet.ciiva.com/2453/pyu-r-int-thick-7-2453378.pdf?src-supplier=Digi-Key; ComponentLink4URL: https://datasheet.ciiva.com/15189/getdatasheetpartid-330246-15189463.pdf?src-supplier=Verical; ComponentLink4Description: https://datasheet.ciiva.com/15189/getdatasheetpartid-330246-15189463.pdf?src-supplier=Verical; ComponentLink5URL: https://datasheet.ciiva.com/46412/1018594-46412838.pdf?src-supplier=Element14; ComponentLink5Description: https://datasheet.ciiva.com/46412/1018594-46412838.pdf?src-supplier=Element14; ComponentLink6URL: https://datasheet.ciiva.com/7850/1018594-7850014.pdf?src-supplier=Element14; ComponentLink6Description: https://datasheet.ciiva.com/7850/1018594-7850014.pdf?src-supplier=Element14; ComponentLink7URL: https://datasheet.ciiva.com/7850/1018594-7850015.pdf?src-supplier=Element14; ComponentLink7Description: https://datasheet.ciiva.com/7850/1018594-7850015.pdf?src-supplier=Element14; Supplier Part Number 1: 311-470LRTR-ND
footprint RES 0402_1005 (Chip Resistor, 2-Leads, Body 1.0x0.5mm, IPC Medium Density)
pins: 1, 2

## RC1005F103CS
designator R?, comment 10k
Res Thick Film 0402 10K Ohm 1% 1/16W ±100ppm/°C Molded SMD SMD T/R; Manufacturer: Samsung; Manufacturer Part Number: RC1005F103CS; Resistance: 10kR; Power Rating: 63mW; Supplier 1: Digi-Key; RoHS: Yes; Category: Chip SMD Resistors; Stock 1: 58620569; Pricing 1: 10000=0.00695 (USD); Mount: Surface Mount; Case/Package: 0402; Case Code (Metric): 1005; Case Code (Imperial): 0402; Contact Plating: Tin; Size Code: 0402; Min Operating Temperature: -55°C; Max Operating Temperature: 155°C; Tolerance: 1%; Packaging: Tape and Reel; Resistor Type: Thick Film; Package Quantity: 1; Number of Terminations: 2; Max Power Dissipation: 63mW; Temperature Coefficient: 100ppm/°C; Features: Moisture Resistant; Series: RC; Construction: Rectangular; Length: 0.039inch; Width: 0.02inch; Height: 0.016inch; Depth: 0.5mm; Radiation Hardening: No; Military Standard: Not; RoHS Compliant: Yes; ComponentLink1URL: https://datasheet.ciiva.com/15196/getdatasheetpartid-504789-15196214.pdf?src-supplier=Verical; ComponentLink1Description: https://datasheet.ciiva.com/15196/getdatasheetpartid-504789-15196214.pdf?src-supplier=Verical; ComponentLink2URL: https://datasheet.ciiva.com/16481/rcseries-16481007.pdf?src-supplier=Future+Electronics; ComponentLink2Description: https://datasheet.ciiva.com/16481/rcseries-16481007.pdf?src-supplier=Future+Electronics; Supplier Part Number 1: 1276-3431-2-ND
footprint RES 0402_1005 (Chip Resistor, 2-Leads, Body 1.0x0.5mm, IPC Medium Density)
pins: 1, 2

## RC1206FR-071ML
designator R?, comment 1M
Res Thick Film 1206 1M Ohm 1% 0.25W(1/4W) ±100ppm/C Pad SMD T/R; Manufacturer: Yageo; Manufacturer Part Number: RC1206FR-071ML; Resistance: 1MR; Temperature Coefficient: 100ppm/°C; Power Rating: 250mW; Voltage Rating: 200V; Supplier 1: Digi-Key; RoHS: Yes; Category: Chip SMD Resistors; Stock 1: 1941274; Pricing 1: 5000=0.00970 (USD); Case/Package: 1206; Case Code (Imperial): 1206; Case Code (Metric): 3216; Size Code: 1206; Min Operating Temperature: -55°C; Max Operating Temperature: 155°C; Tolerance: 1%; Resistor Type: Thick Film; Packaging: Tape and Reel; Package Quantity: 5000; Termination: SMD/SMT; Features: Moisture Resistant; Series: RC; Max Power Dissipation: 250mW; Number of Terminations: 2; Technology: THICK FILM; Resistance Tolerance: 1%; Construction: Rectangular; Length: 3.1mm; Width: 1.6mm; Height: 0.55mm; Depth: 1.6mm; REACH SVHC: Unknown; Lead Free: Lead Free; Military Standard: Not; RoHS Compliant: Yes; ComponentLink1URL: https://datasheet.ciiva.com/11819/0900766b80c6630a-11819912.pdf?src-supplier=RSComponents; ComponentLink1Description: https://datasheet.ciiva.com/11819/0900766b80c6630a-11819912.pdf?src-supplier=RSComponents; ComponentLink2URL: https://datasheet.ciiva.com/17033/pyu-rc1206-51-rohs-l-4-17033611.pdf?src-supplier=Future+Electronics; ComponentLink2Description: https://datasheet.ciiva.com/17033/pyu-rc1206-51-rohs-l-4-17033611.pdf?src-supplier=Future+Electronics; ComponentLink3URL: https://datasheet.ciiva.com/7857/444357-7857288.pdf?src-supplier=Element14; ComponentLink3Description: https://datasheet.ciiva.com/7857/444357-7857288.pdf?src-supplier=Element14; ComponentLink4URL: https://datasheet.ciiva.com/7857/444357-7857289.pdf?src-supplier=Element14; ComponentLink4Description: https://datasheet.ciiva.com/7857/444357-7857289.pdf?src-supplier=Element14; ComponentLink5URL: https://datasheet.ciiva.com/46445/444357-46445709.pdf?src-supplier=Element14; ComponentLink5Description: https://datasheet.ciiva.com/46445/444357-46445709.pdf?src-supplier=Element14; Supplier Part Number 1: 311-1.00MFRTR-ND
footprint RES 1206_3216 (Chip Resistor, 2-Leads, Body 3.13x1.55mm, IPC Medium Density)
pins: 1, 2

## RP605Z333B-E2-F
designator U?
300MA Ultra-low Power Buck Boost; Manufacturer: Ricoh; Supplier 1: Digi-Key; Manufacturer Part Number: RP605Z333B-E2-F; RoHS: No; Category: Power Management ICs; Stock 1: 4740; Pricing 1: 1=2.53000, 10=2.27500, 25=2.14640, 100=1.82880, 250=1.71720, 500=1.50256, 1000=1.24497, 2500=1.21500 (USD); Supplier Part Number 1: 2129-RP605Z333B-E2-FCT-ND
footprint RP605Z333B-E2-F
pins: A1 PVIN_A, A2 BULX_A, A3 PGND_A, A4 BOLX_A, A5 VOUT_A, B1 PVIN_B, B2 BULX_B, B3 PGND_B, B4 BOLX_B, B5 VOUT_B, C1 PVIN_C, C2 BULX_C, C3 PGND_C, C4 BOLX_C, C5 VFB, D1 AVIN, D2 CE1, D3 AGND, D4 CE2, D5 BM

## RR-8X-1506-100r/5%
designator RR?, comment 100R/5%
RETE RESISTIVA 8R sing. 100R 5% 1506 CONVEX CAY16-101J8LF BOURNS SMT; Temp Range: -55°..+125°; Pkg Type: SMD; Note: 200ppm; Famiglia: RESISTENZA; Database: 40062; Caratteristiche: 8X; PCB Footprint: RR-8X-1506; Price Distributor Cad: 0,0361; Modello: RETE; Distributor: FAE
footprint RR-8X-1506
pins: 1, 2, 3, 4, 5, 6, 7, 8, 9, 10, 11, 12, 13, 14, 15, 16

## RS-0201-1M
designator R?, comment 1M
CHIP RES. 1M 0201 1/20W 1%; MPN: RC0201FR-071ML; Database: 36900; Pkg Type: SMD; Famiglia: RESISTENZA; Modello: FISSO; PCB Footprint: RS-0201; Distributor: FAE; Price Distributor Cad: 0,018; Caratteristiche: 1%
footprint RS-0201
pins: 1, 2

## RS-0201-180k
designator R?, comment 180k
CHIP RES. 180K 0201 1/20W 1% 100PPM/°C; MPN: MR02X1803FAL; Database: 50022; Famiglia: RESISTENZA; Modello: FISSO; Pkg Type: SMD; Temp Range: -55°..+125°; PCB Footprint: RS-0201; Caratteristiche: 1%; Distributor: FAE; Price Distributor Cad: 0,03
footprint RS-0201
pins: 1, 2

## RS-0402-1k
designator R?, comment DNM
CHIP RES. 1K 0402 1/16W 1%; Temp Range: -55°..+155°; Pkg Type: SMD; Modello: FISSO; Famiglia: RESISTENZA; Database: 25126; PCB Footprint: RS-0402; Price Distributor Cad: 0,0005; Distributor: FAE; Caratteristiche: 1%
footprint RS-0402
pins: 1, 2

## RS-0402-10k
designator R?, comment 10k
CHIP RES. 10K 0402 1/16W 1%; Pkg Type: SMD; Temp Range: -55°..+125°; Database: 25129; Famiglia: RESISTENZA; Modello: FISSO; ROOM: SOLAR BATTERY CHARGER; PCB Footprint: RS-0402; Distributor: FAE; Price Distributor Cad: 0,0007; Caratteristiche: 1%
footprint RS-0402
pins: 1, 2

## RS-0402-10k_1
designator R?, comment NU
CHIP RES. 10K 0402 1/16W 1%; Pkg Type: SMD; Temp Range: -55°..+125°; Database: 25129; Famiglia: RESISTENZA; Modello: FISSO; ROOM: SOLAR BATTERY CHARGER; PCB Footprint: RS-0402; Distributor: FAE; Price Distributor Cad: 0,0007; Caratteristiche: 1%
footprint RS-0402
pins: 1, 2

## RS-0402-10k_2
designator R??, comment 100k
CHIP RES. 100K 0402 1/16W 1%; Pkg Type: SMD; Temp Range: -55°..+125°; Database: 25129; Famiglia: RESISTENZA; Modello: FISSO; ROOM: SOLAR BATTERY CHARGER; PCB Footprint: RS-0402; Distributor: FAE; Price Distributor Cad: 0,0007; Caratteristiche: 1%
footprint RS-0402
pins: 1, 2

## RS-0402-15k
designator R?, comment 15k
CHIP RES. 15K 0402 1/16W 1%; Modello: FISSO; Famiglia: RESISTENZA; Pkg Type: SMD; Temp Range: -55°..+155°; Database: 40387; PCB Footprint: RS-0402; Caratteristiche: 1%; Distributor: FAE; Price Distributor Cad: 0,0004
footprint RS-0402
pins: 1, 2

## RS-0402-470r
designator R?, comment 470R
CHIP RES. 470R 0402 1/16W 1%; Database: 25128; Pkg Type: SMD; Famiglia: RESISTENZA; Modello: FISSO; ROOM: SOLAR BATTERY CHARGER; PCB Footprint: RS-0402; Price Distributor Cad: 0,0006; Distributor: FAE; Caratteristiche: 1%
footprint RS-0402
pins: 1, 2

## RS-0603
designator R?, comment 10k
Resistenza 0603; Pkg Type: SMD; PCB Footprint: RS-0603
footprint RS-0603
pins: 1, 2

## RS-0603-22r
designator R?, comment 22R
CHIP RES. 22R 0603 1/16W 1%; Modello: FISSO; Famiglia: RESISTENZA; Database: 20385; Pkg Type: SMD; PCB Footprint: RS-0603; Caratteristiche: 1%; Price Distributor Cad: 0,0005; Distributor: FAE
footprint RS-0603
pins: 1, 2

## RS-1206-1M
designator R?, comment 1M
CHIP RES. 1M 1206 1/4W 1%; Pkg Type: SMD; Modello: FISSO; Famiglia: RESISTENZA; Database: 28883; PCB Footprint: RS-1206; ROOM: USB; Price Distributor Cad: 0,0011; Distributor: FAE; Caratteristiche: 1%
footprint RS-1206
pins: 1, 2

## S2BPHSM4TBLFSN
designator J?
PH SMT SIDE ENTRY HDR 2W; Manufacturer: JST; Manufacturer Part Number: S2BPHSM4TBLFSN; Current Rating: 2A; Voltage Rating (AC): 100V; Number of Poles: 2; Contact Resistance: 20mR; Insulation Resistance: 1GR; Gender: Male; Connector Type: Header; Pitch: 2mm; Supplier 1: Digi-Key; RoHS: Yes; Category: Connectors; Mount: Surface Mount; Contact Plating: Tin,Copper; Contact Material: Copper Alloy,Bronze,Tin,Brass; Color: Natural,White; Housing Color: Beige; Housing Material: Polyamide; Contact Shape: Square; Insulation Material: Nylon; Insulation Color: Natural; Contact Finish - Mating: TIN; Min Operating Temperature: -25°C; Max Operating Temperature: 85°C; Number of Rows: 1; Voltage Rating: 100V; Packaging: Tape and Reel; Max Current Rating: 2A; Number of Positions: 2; Termination: Solder; Fastening Type: Detent; Number of Contacts: 2; Working Voltage: 100V; Max Voltage Rating (AC): 100V; Max Voltage Rating (DC): 100V; Orientation: Right Angle; Series: PH; Contact Type: Male Pin; Length: 7.9mm; Width: 5mm; Height: 9.4mm; Lead Pitch: 2mm; Contact Mating Length: 0.13inch; Depth: 7.6mm; REACH SVHC: No SVHC; Lead Free: Lead Free; Flammability Rating: UL94 V-0; ComponentLink1URL: https://datasheet.ciiva.com/712/eph-712514.pdf?src-supplier=Digi-Key; ComponentLink1Description: https://datasheet.ciiva.com/712/eph-712514.pdf?src-supplier=Digi-Key; Supplier Part Number 1: 455-1749-1-ND
footprint JST S2B-PH-SM4-TB (JST PH Series 2mm pitch, side entry connector)
pins: 1, 2

## SCHOTTKY - FSV1045V - 10A/45V
designator DS?, comment FSV1045V
DIODO SCHOTTKY 10A 45V FSV1045V TO277-3 SMT; Temp Range: -55°..+150°; ROOM: SOLAR BATTERY CHARGER; Pkg Type: SMD; Database: 42269; Caratteristiche: 10A/45V; MPN: FSV1045V; Price Distributor Cad: 0,629; Modello: SCHOTTKY; Famiglia: DIODO; Distributor: FAE; PCB Footprint: TO277-3; Supplier 1: Digi-Key; Supplier Part Number 1: FSV1045VCT-ND
footprint TO277-3
pins: 1 A1, 2 A2, 3 C

## SCHOTTKY-STPS3H100U - 3A/100V
designator DS?, comment STPS3H100U
DIODO SCHOTTKY 3A 100V STPS3H100U SMB SMT; Pkg Type: SMD; Database: 40665; Caratteristiche: 3A/100V; ROOM: SOLAR BATTERY CHARGER; MPN: STPS3H100U; Price Distributor Cad: 0,336; Modello: SCHOTTKY; Famiglia: DIODO; Distributor: FAE; PCB Footprint: SMB
footprint SMB
pins: 1 C, 2 A